# Altium footprint library NFM18CC223R1C3.PcbLib: 1 footprints
Each footprint in its own frame and in the unit in brackets; x right, y up, seen from the top. Pads: shape width x height; smd on the part's side, far side on the other; paste and mask are expansions set on the pad; w line width, h text height; cw(c..) or ccw(c..) is an arc to the next point about the centre after c.
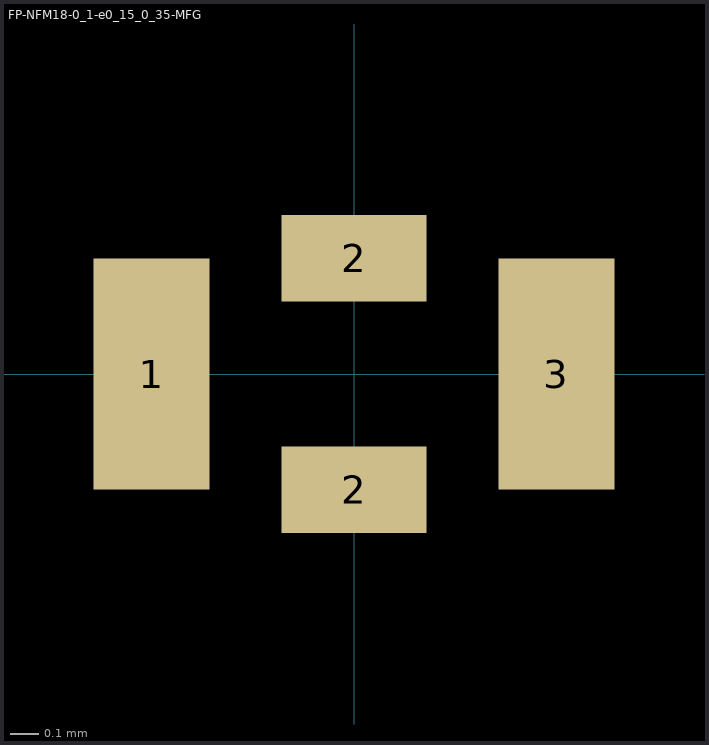
[diagram p0: the footprint, top view; thin cyan lines are the x and y axes]

## FP-NFM18-0_1-e0_15_0_35-MFG [mm]
pads (4):
  rect 0.4x0.8 smd paste+0 mask+0: 1(-0.7,0) 3(0.7,0)
  rect 0.5x0.3 smd paste+0 mask+0: 2(0,-0.4) 2(0,0.4)
3D body "Cap_Murata_NFM18PC474R0J3D_eec.STEP": height 0.25, standoff 0, extent -1.2,-0.7 1.2,0.7